# Altium footprint library MSD4A.PcbLib: 1 footprints
Each footprint in its own frame and in the unit in brackets; x right, y up, seen from the top. Pads: shape width x height; smd on the part's side, far side on the other; paste and mask are expansions set on the pad; w line width, h text height; cw(c..) or ccw(c..) is an arc to the next point about the centre after c.
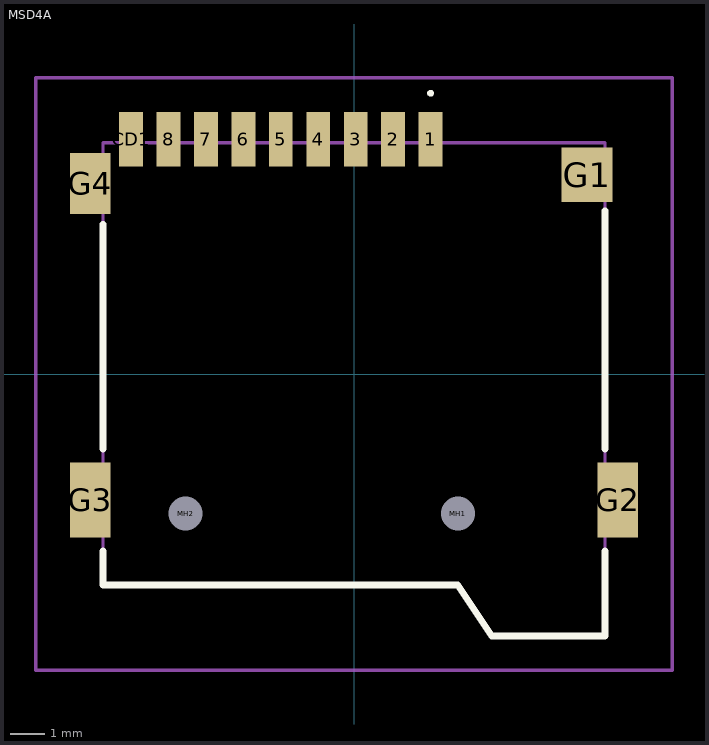
[diagram p0: the footprint, top view; thin cyan lines are the x and y axes]

## MSD4A [mm]
pads (15):
  rect 0.7x1.6 smd: 1(2.25,6.9) 2(1.15,6.9) 3(0.05,6.9) 4(-1.05,6.9) 5(-2.15,6.9) 6(-3.25,6.9) 7(-4.35,6.9) 8(-5.45,6.9) CD1(-6.55,6.9)
  rect 1.5x1.6 smd: G1(6.85,5.85)
  rect 1.2x2.2 smd: G2(7.75,-3.7) G3(-7.75,-3.7)
  rect 1.2x1.8 smd: G4(-7.75,5.6)
  round 0.5 hole 1 unplated: MH1(3.05,-4.1) MH2(-4.95,-4.1)
Top Overlay:
  lines w0.1: 2.25,8.2 2.25,8.2 ; 2.25,8.2 ccw(c2.25,8.25) 2.25,8.3 ; 2.25,8.2 cw(c2.25,8.25) 2.25,8.3 ; 2.25,8.3 2.25,8.3
  lines w0.2: -7.375,-5.2 -7.375,-6.2 3.05,-6.2 4.05,-7.7 7.375,-7.7 7.375,-5.2 ; -7.375,-2.2 -7.375,4.4 ; 7.375,-2.2 7.375,4.8
Mechanical 15:
  lines w0.1: -7.375,-6.2 -7.375,6.8 3.05,6.8 7.375,6.8 7.375,-7.7 4.05,-7.7 3.05,-6.2 -7.375,-6.2
Mechanical 20:
  lines w0.1: -9.35,-8.7 9.35,-8.7 9.35,8.7 -9.35,8.7 -9.35,-8.7